# EAGLE library part PINHD-1X7 (library pie)
7-pin 0.1-inch header
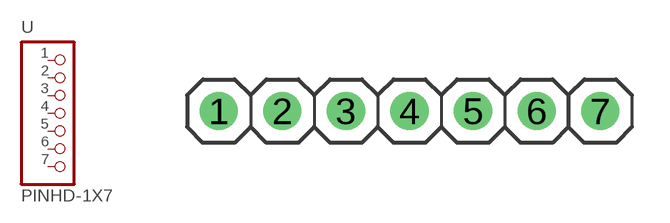
[diagram p31: symbol with the pads of 1X07; footprint 1X07]

Designator prefix -

## PINHD-1X7 (DIGIKEY-PN: 3M9326-ND)  [1X07]
1  1  pas
2  2  pas
3  3  pas
4  4  pas
5  5  pas
6  6  pas
7  7  pas

## Footprint 1X07 (pad centres in mm)
7-pin 0.1-inch header
drill 1.016 pad 1.524: 1 -7.62,0; 2 -5.08,0; 3 -2.54,0; 4 0,0; 5 2.54,0; 6 5.08,0; 7 7.62,0